# EAGLE library part SX1272IMLTRT (library 473)
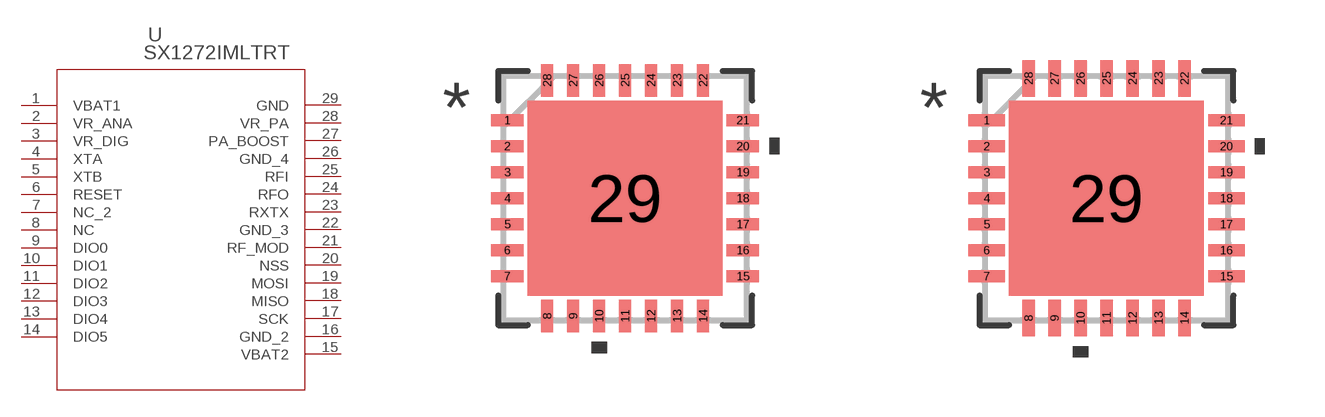
[diagram p4: symbol with the pads of QFN28_6X6_SEM; footprints QFN28_6X6_SEM, QFN28_6X6_SEM-M]

Designator prefix U

## SX1272IMLTRT (COPYRIGHT: Copyright (C) 2022 Ultra Librarian. All rights reserved.; DIGI-KEY_PART_NUMBER_1: SX1272IMLTRTTR-ND; DIGI-KEY_PART_NUMBER_2: SX1272IMLTRTCT-ND; DIGI-KEY_PART_NUMBER_3: SX1272IMLTRTDKR-ND; MANUFACTURER_PART_NUMBER: SX1272IMLTRT; MFR_NAME: Semtech)  [QFN28_6X6_SEM]
1  VBAT1  pwr
2  VR_ANA  pwr
3  VR_DIG  pwr
4  XTA
5  XTB
6  RESET
7  NC_2  nc
8  NC  nc
9  DIO0
10  DIO1
11  DIO2
12  DIO3
13  DIO4
14  DIO5
15  VBAT2  pwr
16  GND_2  pas
17  SCK  in
18  MISO  out
19  MOSI  in
20  NSS  in
21  RF_MOD  out
22  GND_3  pas
23  RXTX  out
24  RFO  out
25  RFI  in
26  GND_4  pas
27  PA_BOOST  out
28  VR_PA  out
29  GND  pas

## SX1272IMLTRTQFN28_6X6_SEM-M (COPYRIGHT: Copyright (C) 2022 Ultra Librarian. All rights reserved.; DIGI-KEY_PART_NUMBER_1: SX1272IMLTRTTR-ND; DIGI-KEY_PART_NUMBER_2: SX1272IMLTRTCT-ND; DIGI-KEY_PART_NUMBER_3: SX1272IMLTRTDKR-ND; MANUFACTURER_PART_NUMBER: SX1272IMLTRT; MFR_NAME: Semtech)  [QFN28_6X6_SEM-M]
Pads as for QFN28_6X6_SEM

## SX1272IMLTRTQFN28_6X6_SEM-L (COPYRIGHT: Copyright (C) 2022 Ultra Librarian. All rights reserved.; DIGI-KEY_PART_NUMBER_1: SX1272IMLTRTTR-ND; DIGI-KEY_PART_NUMBER_2: SX1272IMLTRTCT-ND; DIGI-KEY_PART_NUMBER_3: SX1272IMLTRTDKR-ND; MANUFACTURER_PART_NUMBER: SX1272IMLTRT; MFR_NAME: Semtech)  [QFN28_6X6_SEM-L]
Pads as for QFN28_6X6_SEM

## Footprint QFN28_6X6_SEM (pad centres in mm)
smd 0.813 x 0.305: 1 -2.946,1.95; 2 -2.946,1.3; 3 -2.946,0.65; 4 -2.946,0; 5 -2.946,-0.65; 6 -2.946,-1.3; 7 -2.946,-1.95; 15 2.946,-1.95; 16 2.946,-1.3; 17 2.946,-0.65; 18 2.946,0; 19 2.946,0.65; 20 2.946,1.3; 21 2.946,1.95
smd 0.305 x 0.813: 8 -1.95,-2.946; 9 -1.3,-2.946; 10 -0.65,-2.946; 11 0,-2.946; 12 0.65,-2.946; 13 1.3,-2.946; 14 1.95,-2.946; 22 1.95,2.946; 23 1.3,2.946; 24 0.65,2.946; 25 0,2.946; 26 -0.65,2.946; 27 -1.3,2.946; 28 -1.95,2.946
smd 4.877 x 4.877: 29 0,0

## Footprint QFN28_6X6_SEM-M (pad centres in mm)
smd 0.914 x 0.305: 1 -2.997,1.95; 2 -2.997,1.3; 3 -2.997,0.65; 4 -2.997,0; 5 -2.997,-0.65; 6 -2.997,-1.3; 7 -2.997,-1.95; 15 2.997,-1.95; 16 2.997,-1.3; 17 2.997,-0.65; 18 2.997,0; 19 2.997,0.65; 20 2.997,1.3; 21 2.997,1.95
smd 0.305 x 0.914: 8 -1.95,-2.997; 9 -1.3,-2.997; 10 -0.65,-2.997; 11 0,-2.997; 12 0.65,-2.997; 13 1.3,-2.997; 14 1.95,-2.997; 22 1.95,2.997; 23 1.3,2.997; 24 0.65,2.997; 25 0,2.997; 26 -0.65,2.997; 27 -1.3,2.997; 28 -1.95,2.997
smd 4.877 x 4.877: 29 0,0

## Footprint QFN28_6X6_SEM-L (pad centres in mm)
smd 0.711 x 0.305: 1 -2.896,1.95; 2 -2.896,1.3; 3 -2.896,0.65; 4 -2.896,0; 5 -2.896,-0.65; 6 -2.896,-1.3; 7 -2.896,-1.95; 15 2.896,-1.95; 16 2.896,-1.3; 17 2.896,-0.65; 18 2.896,0; 19 2.896,0.65; 20 2.896,1.3; 21 2.896,1.95
smd 0.305 x 0.711: 8 -1.95,-2.896; 9 -1.3,-2.896; 10 -0.65,-2.896; 11 0,-2.896; 12 0.65,-2.896; 13 1.3,-2.896; 14 1.95,-2.896; 22 1.95,2.896; 23 1.3,2.896; 24 0.65,2.896; 25 0,2.896; 26 -0.65,2.896; 27 -1.3,2.896; 28 -1.95,2.896
smd 4.877 x 4.877: 29 0,0